# Altium schematic symbol library RX8130CE.SchLib: 1 symbol
Pins are listed as number, name and electrical type; pins without a type are passive.

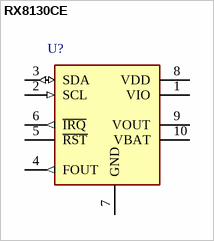
[diagram p0: symbol RX8130CE]

## RX8130CE
designator U?
pins: 1 VIO, 2 SCL (in), 3 SDA (io), 4 FOUT (out), 5 ~{RST}, 6 ~{IRQ} (out), 7 GND, 8 VDD, 9 VOUT, 10 VBAT